# EAGLE library part IS66WVS4M8BLL-104NLI (library iss66)
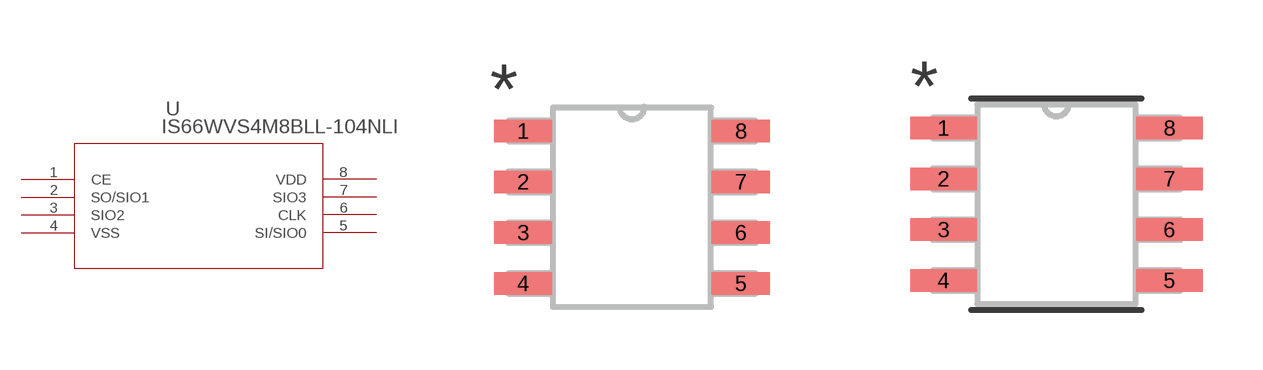
[diagram p0: symbol with the pads of SOIC8_150MIL_N_ISI; footprints SOIC8_150MIL_N_ISI, SOIC8_150MIL_N_ISI-M]

Designator prefix U

## IS66WVS4M8BLL-104NLI (COPYRIGHT: Copyright (C) 2025 Ultra Librarian. All rights reserved.; MANUFACTURER_NAME: ISSI; MANUFACTURER_PART_NUMBER: IS66WVS4M8BLL-104NLI; TYPE: Memory)  [SOIC8_150MIL_N_ISI]
1  CE  in
2  SO/SIO1
3  SIO2
4  VSS  pas
5  SI/SIO0
6  CLK  in
7  SIO3
8  VDD  pwr

## IS66WVS4M8BLL-104NLISOIC8_150MIL_N_ISI-M (COPYRIGHT: Copyright (C) 2025 Ultra Librarian. All rights reserved.; MANUFACTURER_NAME: ISSI; MANUFACTURER_PART_NUMBER: IS66WVS4M8BLL-104NLI; TYPE: Memory)  [SOIC8_150MIL_N_ISI-M]
Pads as for SOIC8_150MIL_N_ISI

## IS66WVS4M8BLL-104NLISOIC8_150MIL_N_ISI-L (COPYRIGHT: Copyright (C) 2025 Ultra Librarian. All rights reserved.; MANUFACTURER_NAME: ISSI; MANUFACTURER_PART_NUMBER: IS66WVS4M8BLL-104NLI; TYPE: Memory)  [SOIC8_150MIL_N_ISI-L]
Pads as for SOIC8_150MIL_N_ISI

## Footprint SOIC8_150MIL_N_ISI (pad centres in mm)
smd 1.46 x 0.559: 1 -2.724,1.905; 2 -2.724,0.635; 3 -2.724,-0.635; 4 -2.724,-1.905; 5 2.724,-1.905; 6 2.724,-0.635; 7 2.724,0.635; 8 2.724,1.905

## Footprint SOIC8_150MIL_N_ISI-M (pad centres in mm)
smd 1.664 x 0.559: 1 -2.826,1.905; 2 -2.826,0.635; 3 -2.826,-0.635; 4 -2.826,-1.905; 5 2.826,-1.905; 6 2.826,-0.635; 7 2.826,0.635; 8 2.826,1.905

## Footprint SOIC8_150MIL_N_ISI-L (pad centres in mm)
smd 1.257 x 0.508: 1 -2.623,1.905; 2 -2.623,0.635; 3 -2.623,-0.635; 4 -2.623,-1.905; 5 2.623,-1.905; 6 2.623,-0.635; 7 2.623,0.635; 8 2.623,1.905